# EAGLE library part 768141*G (library cts)
50V Maxumum Connect Resistor 1, terminal 2 to common signal
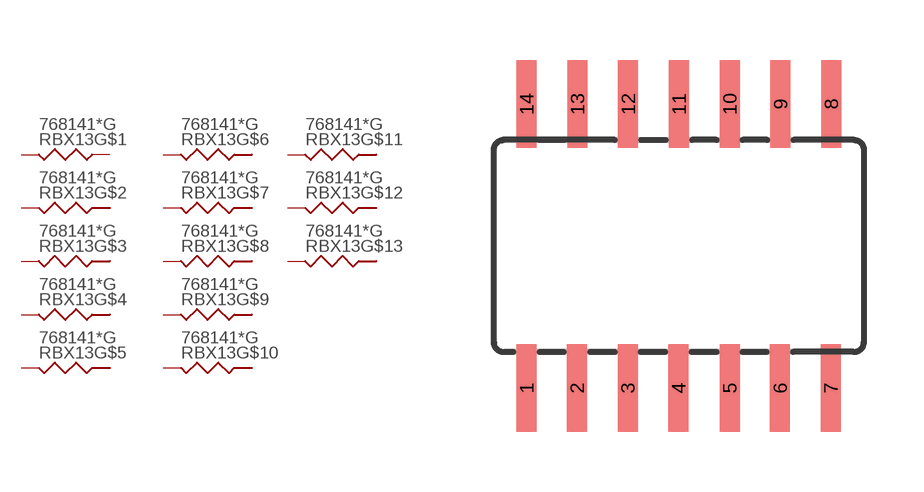
[diagram p1: symbol with the pads of SOP14; footprint SOP14]

Designator prefix RBX13; gates G$1=RESISTOR G$2=BUSSED G$3=BUSSED G$4=BUSSED G$5=BUSSED G$6=BUSSED G$7=BUSSED G$8=BUSSED G$9=BUSSED G$10=BUSSED G$11=BUSSED G$12=BUSSED G$13=BUSSED

## 768141G, 768141000G, 768141100G, 768141101G, 768141102G, 768141103G, 768141104G, 768141105G, 768141111G, 768141112G, 768141113G, 768141114G, 768141120G, 768141121G, 768141123G, 768141124G, 768141150G, 768141151G, 768141152G, 768141153G, 768141154G, 768141180G, 768141181G, 768141182G, 768141183G, 768141184G, 768141201G, 768141202G, 768141203G, 768141204G, 768141220G, 768141221G, 768141222G, 768141223G, 768141224G, 768141270G, 768141271G, 768141272G, 768141273G, 768141274G, 768141330G, 768141331G, 768141332G, 768141333G, 768141334G, 768141390G, 768141391G, 768141392G, 768141393G, 768141394G, 768141470G, 768141471G, 768141472G, 768141473G, 768141474G, 768141510G, 768141511G, 768141512G, 768141560G, 768141561G, 768141562G, 768141563G, 768141564G, 768141680G, 768141681G, 768141682G, 768141683G, 768141684G, 768141820G, 768141821G, 768141822G, 768141823G, 768141824G  [SOP14]
1  G$1:1  pas
2  G$2:2  pas
3  G$3:2  pas
4  G$4:2  pas
5  G$5:2  pas
6  G$6:2  pas
7  G$7:2  pas
8  G$8:2  pas
9  G$9:2  pas
10  G$10:2  pas
11  G$11:2  pas
12  G$12:2  pas
13  G$13:2  pas
14  G$1:2  pas

## Footprint SOP14 (pad centres in mm)
Small Outline Package
smd 0.5 x 2.2: 1 0,-0.375; 2 1.26,-0.375; 3 2.53,-0.375; 4 3.8,-0.375; 5 5.08,-0.375; 6 6.34,-0.375; 7 7.61,-0.375; 8 7.62,6.725; 9 6.35,6.725; 10 5.08,6.725; 11 3.81,6.725; 12 2.54,6.725; 13 1.27,6.725; 14 0,6.725